# Altium schematic symbol library powerPCB.SchLib: 2 symbols
Pins are listed as number, name and electrical type; pins without a type are passive.

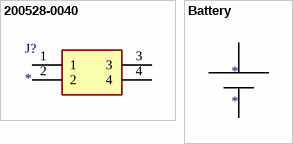
[diagram p0: symbols 200528-0040 to Battery]

## 200528-0040
designator J?
Connector; Manufacturer_Name: Molex; Manufacturer_Part_Number: 200528-0040; Description: 1.0mm R/A FFC/FPC connector; Datasheet Link: http://www.molex.com/webdocs/datasheets/pdf/en-us//2005280040_FFC_FPC_CONNECTORS.pdf; Mouser Part Number: 538-200528-0040; Mouser Price/Stock: https://www.mouser.co.uk/ProductDetail/Molex/200528-0040?qs=IvjI65BR3TWJ39ZrkPFPSw%3D%3D
footprint 200528-0040
pins: 1, 2, 3, 4

## Battery
designator *
footprint Battery (Battery 103450)
pins: + 1, - 2